# Altium schematic symbol library TPS736xx.Schlib: 3 symbols
Pins are listed as number, name and electrical type; pins without a type are passive.

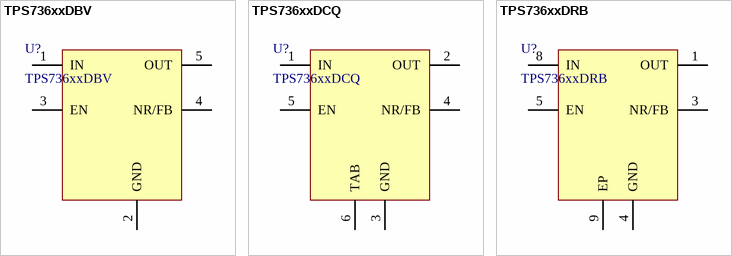
[diagram p0: symbols TPS736xxDBV to TPS736xxDRB]

## TPS736xxDBV
designator U?
pins: 1 IN, 2 GND, 3 EN, 4 NR/FB, 5 OUT

## TPS736xxDCQ
designator U?
pins: 1 IN, 2 OUT, 3 GND, 4 NR/FB, 5 EN, 6 TAB

## TPS736xxDRB
designator U?
pins: 1 OUT, 3 NR/FB, 4 GND, 5 EN, 8 IN, 9 EP